# Altium footprint library superseal-26pin-te-connector.PcbLib: 1 footprints
Each footprint in its own frame and in the unit in brackets; x right, y up, seen from the top. Pads: shape width x height; smd on the part's side, far side on the other; paste and mask are expansions set on the pad; w line width, h text height; cw(c..) or ccw(c..) is an arc to the next point about the centre after c.
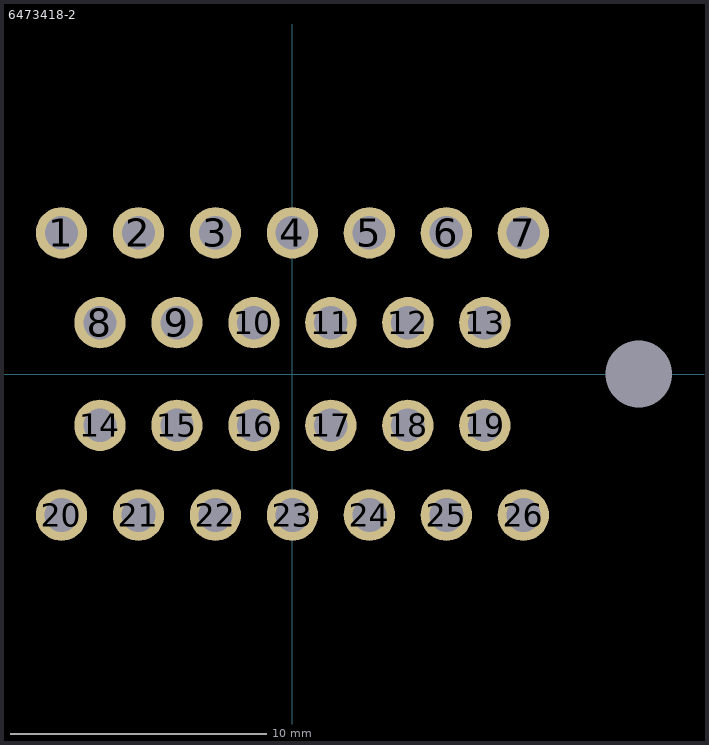
[diagram p0: the footprint, top view; thin cyan lines are the x and y axes]

## 6473418-2 [mm] "Automotive Connectors SUPER SEAL 26POS CAP ASSY V AU"
pads (27):
  round 2 hole 1.3: 1(-9,5.5) 2(-6,5.5) 3(-3,5.5) 4(0,5.5) 5(3,5.5) 6(6,5.5) 7(9,5.5) 8(-7.5,2) 9(-4.5,2) 10(-1.5,2) 11(1.5,2) 12(4.5,2) 13(7.5,2) 14(-7.5,-2) 15(-4.5,-2) 16(-1.5,-2) 17(1.5,-2) 18(4.5,-2) 19(7.5,-2)
  round 2 hole 1.32: 20(-9,-5.5) 21(-6,-5.5) 22(-3,-5.5) 23(0,-5.5) 24(3,-5.5) 25(6,-5.5) 26(9,-5.5)
  round 0 hole 2.6: ""(13.5,0)
3D body "c-6437288-6-d-3d.stp": height 24.8, standoff -4.4, extent -19.5,-17 19.5,19.5